# Altium schematic symbol library TPHR6503PL.SchLib: 1 symbol
Pins are listed as number, name and electrical type; pins without a type are passive.

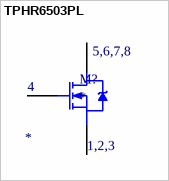
[diagram p0: symbol TPHR6503PL]

## TPHR6503PL
designator M?
MfrPartNo: *
pins: 1 S, 2 S, 3 S, 4 G, 5 D, 6 D, 7 D, 8 D
text: 5,6,7,8; 1,2,3